# Altium integrated library Diodes - TVS.IntLib: 5379 symbols (part 46 of 122)
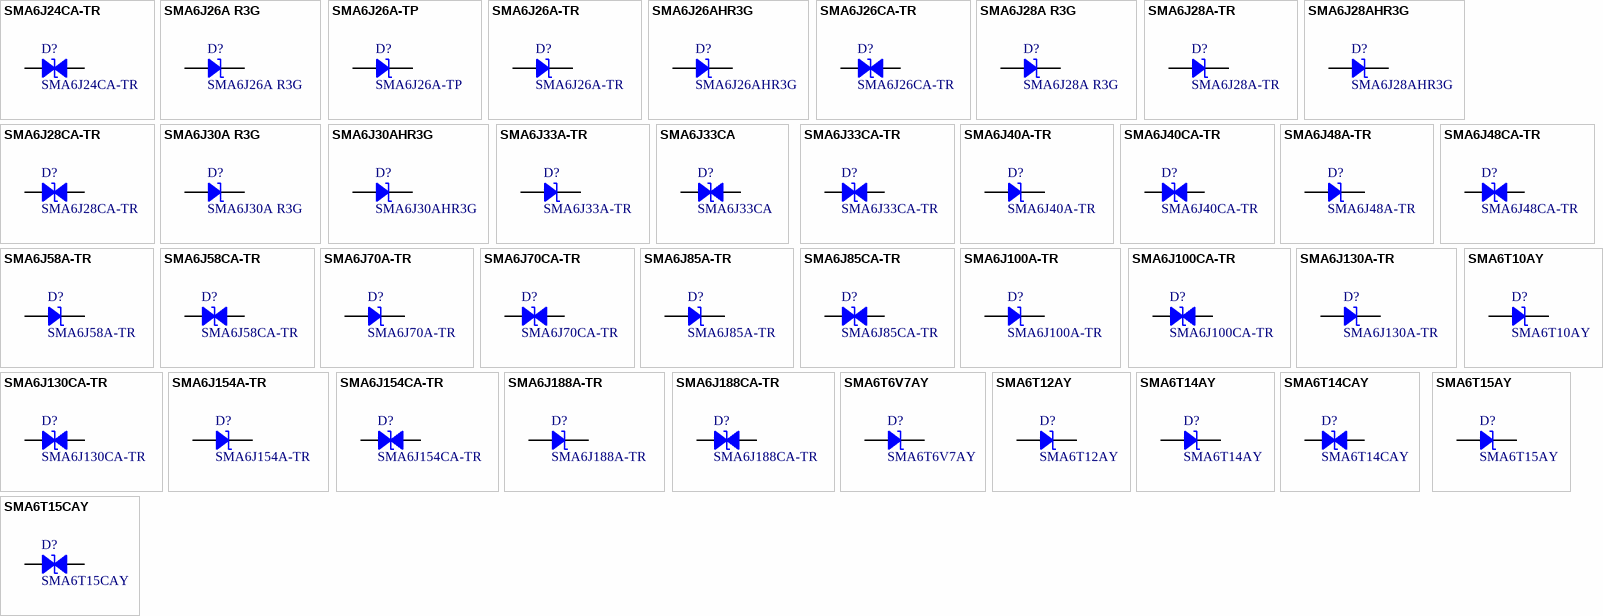
[diagram p179: symbols SMA6J24CA-TR to SMA6T15CAY]

## SMA6J58A-TR
designator D?
TVS DIODE 58V 100V SMA; Manufacturer: STMicroelectronics; Current - Peak Pulse (10/1000µs): 33A (8/20µs); Power Line Protection: No; Power - Peak Pulse: 600W; Type: Zener; Unidirectional Channels: 1; Voltage - Breakdown (Min): 64.4V; Part Number: SMA6J58A-TR; Applications: General Purpose; ComponentLink1Description: Datasheet; ComponentLink1URL: http://www.st.com/content/ccc/resource/technical/document/datasheet/56/26/d7/6f/22/8c/4e/b3/CD00152688.pdf/files/CD00152688.pdf/_jcr_content/translations/en.CD00152688.pdf; ComponentLink2Description: DigiKey Link; ComponentLink2URL: http://digikey.com/product-detail/en/stmicroelectronics/SMA6J58A-TR/497-5940-1-ND/1578446; LastUpdated: 9/2/2020 1:20:14 AM; Lifecycle Status: Active; Minimum Order: 1; Mounting Type: Surface Mount; Operating Temperature: -55°C ~ 175°C (TJ); Package / Case: DO-214AC, SMA; Packaging: TapeAndReel; PartId: 5688; Part Status: Active; Price: 0.16; Series: SMA6J, TRANSIL™; Supplier 1: DigiKey; Supplier Part Number 1: 497-5940-1-ND; Supplier Device Package: SMA (DO-214AC); Voltage - Clamping (Max) @ Ipp: 100V; Voltage - Reverse Standoff (Typ): 58V
footprint DO214AC SMA
pins: 1, 2

## SMA6J58CA-TR
designator D?
TVS DIODE 58V 100V SMA; Manufacturer: STMicroelectronics; Bidirectional Channels: 1; Current - Peak Pulse (10/1000µs): 33A (8/20µs); Power Line Protection: No; Power - Peak Pulse: 600W; Type: Zener; Voltage - Breakdown (Min): 64.4V; Part Number: SMA6J58CA-TR; Applications: General Purpose; ComponentLink1Description: Datasheet; ComponentLink1URL: http://www.st.com/content/ccc/resource/technical/document/datasheet/56/26/d7/6f/22/8c/4e/b3/CD00152688.pdf/files/CD00152688.pdf/_jcr_content/translations/en.CD00152688.pdf; ComponentLink2Description: DigiKey Link; ComponentLink2URL: http://digikey.com/product-detail/en/stmicroelectronics/SMA6J58CA-TR/497-5941-1-ND/1578447; LastUpdated: 9/2/2020 1:27:51 AM; Lifecycle Status: Active; Minimum Order: 1; Mounting Type: Surface Mount; Operating Temperature: -55°C ~ 175°C (TJ); Package / Case: DO-214AC, SMA; Packaging: TapeAndReel; PartId: 7383; Part Status: Active; Price: 0.17; Series: SMA6J, TRANSIL™; Supplier 1: DigiKey; Supplier Part Number 1: 497-5941-1-ND; Supplier Device Package: SMA (DO-214AC); Voltage - Clamping (Max) @ Ipp: 100V; Voltage - Reverse Standoff (Typ): 58V
footprint DO214AC SMA
pins: 1, 2

## SMA6J70A-TR
designator D?
TVS DIODE 70V 120V SMA; Manufacturer: STMicroelectronics; Current - Peak Pulse (10/1000µs): 27A (8/20µs); Power Line Protection: No; Power - Peak Pulse: 600W; Type: Zener; Unidirectional Channels: 1; Voltage - Breakdown (Min): 77.8V; Part Number: SMA6J70A-TR; Applications: General Purpose; ComponentLink1Description: Datasheet; ComponentLink1URL: http://www.st.com/content/ccc/resource/technical/document/datasheet/56/26/d7/6f/22/8c/4e/b3/CD00152688.pdf/files/CD00152688.pdf/_jcr_content/translations/en.CD00152688.pdf; ComponentLink2Description: DigiKey Link; ComponentLink2URL: http://digikey.com/product-detail/en/stmicroelectronics/SMA6J70A-TR/497-5946-1-ND/1578452; LastUpdated: 9/2/2020 1:20:14 AM; Lifecycle Status: Active; Minimum Order: 1; Mounting Type: Surface Mount; Operating Temperature: -55°C ~ 175°C (TJ); Package / Case: DO-214AC, SMA; Packaging: TapeAndReel; PartId: 5732; Part Status: Active; Price: 0.16; Series: SMA6J, TRANSIL™; Supplier 1: DigiKey; Supplier Part Number 1: 497-5946-1-ND; Supplier Device Package: SMA (DO-214AC); Voltage - Clamping (Max) @ Ipp: 120V; Voltage - Reverse Standoff (Typ): 70V
footprint DO214AC SMA
pins: 1, 2

## SMA6J70CA-TR
designator D?
TVS DIODE 70V 120V SMA; Manufacturer: STMicroelectronics; Bidirectional Channels: 1; Current - Peak Pulse (10/1000µs): 27A (8/20µs); Power Line Protection: No; Power - Peak Pulse: 600W; Type: Zener; Voltage - Breakdown (Min): 77.8V; Part Number: SMA6J70CA-TR; Applications: General Purpose; ComponentLink1Description: Datasheet; ComponentLink1URL: http://www.st.com/content/ccc/resource/technical/document/datasheet/56/26/d7/6f/22/8c/4e/b3/CD00152688.pdf/files/CD00152688.pdf/_jcr_content/translations/en.CD00152688.pdf; ComponentLink2Description: DigiKey Link; ComponentLink2URL: http://digikey.com/product-detail/en/stmicroelectronics/SMA6J70CA-TR/497-5947-1-ND/1578453; LastUpdated: 9/2/2020 1:27:51 AM; Lifecycle Status: Active; Minimum Order: 1; Mounting Type: Surface Mount; Operating Temperature: -55°C ~ 175°C (TJ); Package / Case: DO-214AC, SMA; Packaging: TapeAndReel; PartId: 7330; Part Status: Active; Price: 0.17; Series: SMA6J, TRANSIL™; Supplier 1: DigiKey; Supplier Part Number 1: 497-5947-1-ND; Supplier Device Package: SMA (DO-214AC); Voltage - Clamping (Max) @ Ipp: 120V; Voltage - Reverse Standoff (Typ): 70V
footprint DO214AC SMA
pins: 1, 2

## SMA6J85A-TR
designator D?
TVS DIODE 85V 146V SMA; Manufacturer: STMicroelectronics; Current - Peak Pulse (10/1000µs): 22.5A (8/20µs); Power Line Protection: No; Power - Peak Pulse: 600W; Type: Zener; Unidirectional Channels: 1; Voltage - Breakdown (Min): 94V; Part Number: SMA6J85A-TR; Applications: General Purpose; ComponentLink1Description: Datasheet; ComponentLink1URL: http://www.st.com/content/ccc/resource/technical/document/datasheet/56/26/d7/6f/22/8c/4e/b3/CD00152688.pdf/files/CD00152688.pdf/_jcr_content/translations/en.CD00152688.pdf; ComponentLink2Description: DigiKey Link; ComponentLink2URL: http://digikey.com/product-detail/en/stmicroelectronics/SMA6J85A-TR/497-7445-1-ND/1883980; LastUpdated: 9/2/2020 1:20:13 AM; Lifecycle Status: Active; Minimum Order: 1; Mounting Type: Surface Mount; Operating Temperature: -55°C ~ 175°C (TJ); Package / Case: DO-214AC, SMA; Packaging: TapeAndReel; PartId: 5616; Part Status: Active; Price: 0.16; Series: SMA6J, TRANSIL™; Supplier 1: DigiKey; Supplier Part Number 1: 497-7445-1-ND; Supplier Device Package: SMA (DO-214AC); Voltage - Clamping (Max) @ Ipp: 146V; Voltage - Reverse Standoff (Typ): 85V
footprint DO214AC SMA
pins: 1, 2

## SMA6J85CA-TR
designator D?
TVS DIODE 85V 146V SMA; Manufacturer: STMicroelectronics; Bidirectional Channels: 1; Current - Peak Pulse (10/1000µs): 22.5A (8/20µs); Power Line Protection: No; Power - Peak Pulse: 600W; Type: Zener; Voltage - Breakdown (Min): 94V; Part Number: SMA6J85CA-TR; Applications: General Purpose; ComponentLink1Description: Datasheet; ComponentLink1URL: http://www.st.com/content/ccc/resource/technical/document/datasheet/56/26/d7/6f/22/8c/4e/b3/CD00152688.pdf/files/CD00152688.pdf/_jcr_content/translations/en.CD00152688.pdf; ComponentLink2Description: DigiKey Link; ComponentLink2URL: http://digikey.com/product-detail/en/stmicroelectronics/SMA6J85CA-TR/497-7889-1-ND/1883966; LastUpdated: 9/2/2020 1:27:50 AM; Lifecycle Status: Active; Minimum Order: 1; Mounting Type: Surface Mount; Operating Temperature: -55°C ~ 175°C (TJ); Package / Case: DO-214AC, SMA; Packaging: TapeAndReel; PartId: 7273; Part Status: Active; Price: 0.18; Series: SMA6J, TRANSIL™; Supplier 1: DigiKey; Supplier Part Number 1: 497-7889-1-ND; Supplier Device Package: SMA (DO-214AC); Voltage - Clamping (Max) @ Ipp: 146V; Voltage - Reverse Standoff (Typ): 85V
footprint DO214AC SMA
pins: 1, 2

## SMA6J100A-TR
designator D?
TVS DIODE 100V 172V SMA; Manufacturer: STMicroelectronics; Current - Peak Pulse (10/1000µs): 19A (8/20µs); Power Line Protection: No; Power - Peak Pulse: 600W; Type: Zener; Unidirectional Channels: 1; Voltage - Breakdown (Min): 111V; Part Number: SMA6J100A-TR; Applications: General Purpose; ComponentLink1Description: Datasheet; ComponentLink1URL: http://www.st.com/content/ccc/resource/technical/document/datasheet/56/26/d7/6f/22/8c/4e/b3/CD00152688.pdf/files/CD00152688.pdf/_jcr_content/translations/en.CD00152688.pdf; ComponentLink2Description: DigiKey Link; ComponentLink2URL: http://digikey.com/product-detail/en/stmicroelectronics/SMA6J100A-TR/497-7440-1-ND/1883978; LastUpdated: 9/2/2020 1:20:13 AM; Lifecycle Status: Active; Minimum Order: 1; Mounting Type: Surface Mount; Operating Temperature: -55°C ~ 175°C (TJ); Package / Case: DO-214AC, SMA; Packaging: TapeAndReel; PartId: 5617; Part Status: Active; Price: 0.16; Series: SMA6J, TRANSIL™; Supplier 1: DigiKey; Supplier Part Number 1: 497-7440-1-ND; Supplier Device Package: SMA (DO-214AC); Voltage - Clamping (Max) @ Ipp: 172V; Voltage - Reverse Standoff (Typ): 100V
footprint DO214AC SMA
pins: 1, 2

## SMA6J100CA-TR
designator D?
TVS DIODE 100V 172V SMA; Manufacturer: STMicroelectronics; Bidirectional Channels: 1; Current - Peak Pulse (10/1000µs): 19A (8/20µs); Power Line Protection: No; Power - Peak Pulse: 600W; Type: Zener; Voltage - Breakdown (Min): 111V; Part Number: SMA6J100CA-TR; Applications: General Purpose; ComponentLink1Description: Datasheet; ComponentLink1URL: http://www.st.com/content/ccc/resource/technical/document/datasheet/56/26/d7/6f/22/8c/4e/b3/CD00152688.pdf/files/CD00152688.pdf/_jcr_content/translations/en.CD00152688.pdf; ComponentLink2Description: DigiKey Link; ComponentLink2URL: http://digikey.com/product-detail/en/stmicroelectronics/SMA6J100CA-TR/497-7883-1-ND/1883953; LastUpdated: 9/2/2020 1:27:51 AM; Lifecycle Status: Active; Minimum Order: 1; Mounting Type: Surface Mount; Operating Temperature: -55°C ~ 175°C (TJ); Package / Case: DO-214AC, SMA; Packaging: TapeAndReel; PartId: 7382; Part Status: Active; Price: 0.18; Series: SMA6J, TRANSIL™; Supplier 1: DigiKey; Supplier Part Number 1: 497-7883-1-ND; Supplier Device Package: SMA (DO-214AC); Voltage - Clamping (Max) @ Ipp: 172V; Voltage - Reverse Standoff (Typ): 100V
footprint DO214AC SMA
pins: 1, 2

## SMA6J130A-TR
designator D?
TVS DIODE 130V 223V SMA; Manufacturer: STMicroelectronics; Current - Peak Pulse (10/1000µs): 15A (8/20µs); Power Line Protection: No; Power - Peak Pulse: 600W; Type: Zener; Unidirectional Channels: 1; Voltage - Breakdown (Min): 144V; Part Number: SMA6J130A-TR; Applications: General Purpose; ComponentLink1Description: Datasheet; ComponentLink1URL: http://www.st.com/content/ccc/resource/technical/document/datasheet/56/26/d7/6f/22/8c/4e/b3/CD00152688.pdf/files/CD00152688.pdf/_jcr_content/translations/en.CD00152688.pdf; ComponentLink2Description: DigiKey Link; ComponentLink2URL: http://digikey.com/product-detail/en/stmicroelectronics/SMA6J130A-TR/497-SMA6J130A-CT-ND/1883971; LastUpdated: 9/2/2020 1:20:12 AM; Lifecycle Status: Active; Minimum Order: 1; Mounting Type: Surface Mount; Operating Temperature: -55°C ~ 175°C (TJ); Package / Case: DO-214AC, SMA; Packaging: TapeAndReel; PartId: 5550; Part Status: Active; Price: 0.16; Series: SMA6J, TRANSIL™; Supplier 1: DigiKey; Supplier Part Number 1: 497-SMA6J130A-CT-ND; Supplier Device Package: SMA (DO-214AC); Voltage - Clamping (Max) @ Ipp: 223V; Voltage - Reverse Standoff (Typ): 130V
footprint DO214AC SMA
pins: 1, 2

## SMA6J130CA-TR
designator D?
TVS DIODE 130V 223V SMA; Manufacturer: STMicroelectronics; Bidirectional Channels: 1; Current - Peak Pulse (10/1000µs): 15A (8/20µs); Power Line Protection: No; Power - Peak Pulse: 600W; Type: Zener; Voltage - Breakdown (Min): 144V; Part Number: SMA6J130CA-TR; Applications: General Purpose; ComponentLink1Description: Datasheet; ComponentLink1URL: http://www.st.com/content/ccc/resource/technical/document/datasheet/56/26/d7/6f/22/8c/4e/b3/CD00152688.pdf/files/CD00152688.pdf/_jcr_content/translations/en.CD00152688.pdf; ComponentLink2Description: DigiKey Link; ComponentLink2URL: http://digikey.com/product-detail/en/stmicroelectronics/SMA6J130CA-TR/497-7884-1-ND/1883956; LastUpdated: 9/2/2020 1:27:50 AM; Lifecycle Status: Active; Minimum Order: 1; Mounting Type: Surface Mount; Operating Temperature: -55°C ~ 175°C (TJ); Package / Case: DO-214AC, SMA; Packaging: TapeAndReel; PartId: 7274; Part Status: Active; Price: 0.18; Series: SMA6J, TRANSIL™; Supplier 1: DigiKey; Supplier Part Number 1: 497-7884-1-ND; Supplier Device Package: SMA (DO-214AC); Voltage - Clamping (Max) @ Ipp: 223V; Voltage - Reverse Standoff (Typ): 130V
footprint DO214AC SMA
pins: 1, 2

## SMA6J154A-TR
designator D?
TVS DIODE 154V 265V SMA; Manufacturer: STMicroelectronics; Current - Peak Pulse (10/1000µs): 12.6A (8/20µs); Power Line Protection: No; Power - Peak Pulse: 600W; Type: Zener; Unidirectional Channels: 1; Voltage - Breakdown (Min): 171V; Part Number: SMA6J154A-TR; Applications: General Purpose; ComponentLink1Description: Datasheet; ComponentLink1URL: http://www.st.com/content/ccc/resource/technical/document/datasheet/56/26/d7/6f/22/8c/4e/b3/CD00152688.pdf/files/CD00152688.pdf/jcr:content/translations/en.CD00152688.pdf; ComponentLink2Description: DigiKey Link; ComponentLink2URL: http://digikey.com/product-detail/en/stmicroelectronics/SMA6J154A-TR/497-7442-1-ND/1883988; LastUpdated: 9/2/2020 1:20:14 AM; Lifecycle Status: Active; Minimum Order: 1; Mounting Type: Surface Mount; Operating Temperature: -55°C ~ 175°C (TJ); Package / Case: DO-214AC, SMA; Packaging: TapeAndReel; PartId: 5689; Part Status: Active; Price: 0.16; Series: SMA6J, TRANSIL™; Supplier 1: DigiKey; Supplier Part Number 1: 497-7442-1-ND; Supplier Device Package: SMA (DO-214AC); Voltage - Clamping (Max) @ Ipp: 265V; Voltage - Reverse Standoff (Typ): 154V
footprint DO214AC SMA
pins: 1, 2

## SMA6J154CA-TR
designator D?
TVS DIODE 154V 265V SMA; Manufacturer: STMicroelectronics; Bidirectional Channels: 1; Current - Peak Pulse (10/1000µs): 12.6A (8/20µs); Power Line Protection: No; Power - Peak Pulse: 600W; Type: Zener; Voltage - Breakdown (Min): 171V; Part Number: SMA6J154CA-TR; Applications: General Purpose; ComponentLink1Description: Datasheet; ComponentLink1URL: http://www.st.com/content/ccc/resource/technical/document/datasheet/56/26/d7/6f/22/8c/4e/b3/CD00152688.pdf/files/CD00152688.pdf/_jcr_content/translations/en.CD00152688.pdf; ComponentLink2Description: DigiKey Link; ComponentLink2URL: http://digikey.com/product-detail/en/stmicroelectronics/SMA6J154CA-TR/497-7885-1-ND/1883957; LastUpdated: 9/2/2020 1:27:50 AM; Lifecycle Status: Active; Minimum Order: 1; Mounting Type: Surface Mount; Operating Temperature: -55°C ~ 175°C (TJ); Package / Case: DO-214AC, SMA; Packaging: TapeAndReel; PartId: 7272; Part Status: Active; Price: 0.18; Series: SMA6J, TRANSIL™; Supplier 1: DigiKey; Supplier Part Number 1: 497-7885-1-ND; Supplier Device Package: SMA (DO-214AC); Voltage - Clamping (Max) @ Ipp: 265V; Voltage - Reverse Standoff (Typ): 154V
footprint DO214AC SMA
pins: 1, 2

## SMA6J188A-TR
designator D?
TVS DIODE 188V 323V SMA; Manufacturer: STMicroelectronics; Current - Peak Pulse (10/1000µs): 10.3A (8/20µs); Power Line Protection: No; Power - Peak Pulse: 600W; Type: Zener; Unidirectional Channels: 1; Voltage - Breakdown (Min): 209V; Part Number: SMA6J188A-TR; Applications: General Purpose; ComponentLink1Description: Datasheet; ComponentLink1URL: http://www.st.com/content/ccc/resource/technical/document/datasheet/56/26/d7/6f/22/8c/4e/b3/CD00152688.pdf/files/CD00152688.pdf/_jcr_content/translations/en.CD00152688.pdf; ComponentLink2Description: DigiKey Link; ComponentLink2URL: http://digikey.com/product-detail/en/stmicroelectronics/SMA6J188A-TR/497-SMA6J188A-CT-ND/1883987; LastUpdated: 9/2/2020 1:20:12 AM; Lifecycle Status: Active; Minimum Order: 1; Mounting Type: Surface Mount; Operating Temperature: -55°C ~ 175°C (TJ); Package / Case: DO-214AC, SMA; Packaging: TapeAndReel; PartId: 5549; Part Status: Active; Price: 0.16; Series: SMA6J, TRANSIL™; Supplier 1: DigiKey; Supplier Part Number 1: 497-SMA6J188A-CT-ND; Supplier Device Package: SMA (DO-214AC); Voltage - Clamping (Max) @ Ipp: 323V; Voltage - Reverse Standoff (Typ): 188V
footprint DO214AC SMA
pins: 1, 2

## SMA6J188CA-TR
designator D?
TVS DIODE 188V 323V SMA; Manufacturer: STMicroelectronics; Bidirectional Channels: 1; Current - Peak Pulse (10/1000µs): 10.3A (8/20µs); Power Line Protection: No; Power - Peak Pulse: 600W; Type: Zener; Voltage - Breakdown (Min): 209V; Part Number: SMA6J188CA-TR; Applications: General Purpose; ComponentLink1Description: Datasheet; ComponentLink1URL: http://www.st.com/content/ccc/resource/technical/document/datasheet/56/26/d7/6f/22/8c/4e/b3/CD00152688.pdf/files/CD00152688.pdf/_jcr_content/translations/en.CD00152688.pdf; ComponentLink2Description: DigiKey Link; ComponentLink2URL: http://digikey.com/product-detail/en/stmicroelectronics/SMA6J188CA-TR/497-7887-1-ND/1883958; LastUpdated: 9/2/2020 1:27:50 AM; Lifecycle Status: Active; Minimum Order: 1; Mounting Type: Surface Mount; Operating Temperature: -55°C ~ 175°C (TJ); Package / Case: DO-214AC, SMA; Packaging: TapeAndReel; PartId: 7278; Part Status: Active; Price: 0.18; Series: SMA6J, TRANSIL™; Supplier 1: DigiKey; Supplier Part Number 1: 497-7887-1-ND; Supplier Device Package: SMA (DO-214AC); Voltage - Clamping (Max) @ Ipp: 323V; Voltage - Reverse Standoff (Typ): 188V
footprint DO214AC SMA
pins: 1, 2

## SMA6T6V7AY
designator D?
TVS DIODE 5V 13.4V SMA; Manufacturer: STMicroelectronics; Current - Peak Pulse (10/1000µs): 298A (8/20µs); Power Line Protection: No; Power - Peak Pulse: 600W; Type: Zener; Unidirectional Channels: 1; Voltage - Breakdown (Min): 6.4V; Part Number: SMA6T6V7AY; Applications: Automotive; ComponentLink1Description: Datasheet; ComponentLink1URL: http://www.st.com/content/ccc/resource/technical/document/datasheet/93/f7/c5/38/17/3c/42/37/CD00283518.pdf/files/CD00283518.pdf/_jcr_content/translations/en.CD00283518.pdf; ComponentLink2Description: DigiKey Link; ComponentLink2URL: http://digikey.com/product-detail/en/stmicroelectronics/SMA6T6V7AY/497-11833-1-ND/2756598; LastUpdated: 9/2/2020 1:20:12 AM; Lifecycle Status: Active; Minimum Order: 1; Mounting Type: Surface Mount; Operating Temperature: -40°C ~ 150°C (TJ); Package / Case: DO-214AC, SMA; Packaging: TapeAndReel; PartId: 5553; Part Status: Active; Price: 0.21; Series: Automotive, AEC-Q101, SMA6TY, TRANSIL™; Supplier 1: DigiKey; Supplier Part Number 1: 497-11833-1-ND; Supplier Device Package: SMA (DO-214AC); Voltage - Clamping (Max) @ Ipp: 13.4V; Voltage - Reverse Standoff (Typ): 5V
footprint DO214AC SMA
pins: 1, 2

## SMA6T10AY
designator D?
TVS DIODE 8.6V 18.6V SMA; Manufacturer: STMicroelectronics; Current - Peak Pulse (10/1000µs): 215A (8/20µs); Power Line Protection: No; Power - Peak Pulse: 600W; Type: Zener; Unidirectional Channels: 1; Voltage - Breakdown (Min): 9.5V; Part Number: SMA6T10AY; Applications: Automotive; ComponentLink1Description: Datasheet; ComponentLink1URL: http://www.st.com/content/ccc/resource/technical/document/datasheet/93/f7/c5/38/17/3c/42/37/CD00283518.pdf/files/CD00283518.pdf/_jcr_content/translations/en.CD00283518.pdf; ComponentLink2Description: DigiKey Link; ComponentLink2URL: http://digikey.com/product-detail/en/stmicroelectronics/SMA6T10AY/497-11819-1-ND/2756630; LastUpdated: 9/2/2020 1:20:13 AM; Lifecycle Status: Active; Minimum Order: 1; Mounting Type: Surface Mount; Operating Temperature: -40°C ~ 150°C (TJ); Package / Case: DO-214AC, SMA; Packaging: TapeAndReel; PartId: 5565; Part Status: Active; Price: 0.21; Series: Automotive, AEC-Q101, SMA6TY, TRANSIL™; Supplier 1: DigiKey; Supplier Part Number 1: 497-11819-1-ND; Supplier Device Package: SMA (DO-214AC); Voltage - Clamping (Max) @ Ipp: 18.6V; Voltage - Reverse Standoff (Typ): 8.6V
footprint DO214AC SMA
pins: 1, 2

## SMA6T12AY
designator D?
TVS DIODE 10.2V 21.7V SMA; Manufacturer: STMicroelectronics; Current - Peak Pulse (10/1000µs): 184A (8/20µs); Power Line Protection: No; Power - Peak Pulse: 600W; Type: Zener; Unidirectional Channels: 1; Voltage - Breakdown (Min): 11.4V; Part Number: SMA6T12AY; Applications: Automotive; ComponentLink1Description: Datasheet; ComponentLink1URL: http://www.st.com/content/ccc/resource/technical/document/datasheet/93/f7/c5/38/17/3c/42/37/CD00283518.pdf/files/CD00283518.pdf/_jcr_content/translations/en.CD00283518.pdf; ComponentLink2Description: DigiKey Link; ComponentLink2URL: http://digikey.com/product-detail/en/stmicroelectronics/SMA6T12AY/497-11821-1-ND/2756633; LastUpdated: 9/2/2020 1:20:12 AM; Lifecycle Status: Active; Minimum Order: 1; Mounting Type: Surface Mount; Operating Temperature: -40°C ~ 150°C (TJ); Package / Case: DO-214AC, SMA; Packaging: TapeAndReel; PartId: 5554; Part Status: Active; Price: 0.21; Series: Automotive, AEC-Q101, SMA6TY, TRANSIL™; Supplier 1: DigiKey; Supplier Part Number 1: 497-11821-1-ND; Supplier Device Package: SMA (DO-214AC); Voltage - Clamping (Max) @ Ipp: 21.7V; Voltage - Reverse Standoff (Typ): 10.2V
footprint DO214AC SMA
pins: 1, 2

## SMA6T14AY
designator D?
TVS DIODE 12V 23.5V SMA; Manufacturer: STMicroelectronics; Current - Peak Pulse (10/1000µs): 157A (8/20µs); Power Line Protection: No; Power - Peak Pulse: 600W; Type: Zener; Unidirectional Channels: 1; Voltage - Breakdown (Min): 13.3V; Part Number: SMA6T14AY; Applications: Automotive; ComponentLink1Description: Datasheet; ComponentLink1URL: http://www.st.com/content/ccc/resource/technical/document/datasheet/93/f7/c5/38/17/3c/42/37/CD00283518.pdf/files/CD00283518.pdf/_jcr_content/translations/en.CD00283518.pdf; ComponentLink2Description: DigiKey Link; ComponentLink2URL: http://digikey.com/product-detail/en/stmicroelectronics/SMA6T14AY/497-11823-1-ND/2756631; LastUpdated: 9/2/2020 1:20:14 AM; Lifecycle Status: Active; Minimum Order: 1; Mounting Type: Surface Mount; Operating Temperature: -40°C ~ 150°C (TJ); Package / Case: DO-214AC, SMA; Packaging: TapeAndReel; PartId: 5721; Part Status: Active; Price: 0.21; Series: Automotive, AEC-Q101, SMA6TY, TRANSIL™; Supplier 1: DigiKey; Supplier Part Number 1: 497-11823-1-ND; Supplier Device Package: SMA (DO-214AC); Voltage - Clamping (Max) @ Ipp: 23.5V; Voltage - Reverse Standoff (Typ): 12V
footprint DO214AC SMA
pins: 1, 2

## SMA6T14CAY
designator D?
TVS DIODE 12V 23.5V SMA; Manufacturer: STMicroelectronics; Bidirectional Channels: 1; Current - Peak Pulse (10/1000µs): 157A (8/20µs); Power Line Protection: No; Power - Peak Pulse: 600W; Type: Zener; Voltage - Breakdown (Min): 13.3V; Part Number: SMA6T14CAY; Applications: Automotive; ComponentLink1Description: Datasheet; ComponentLink1URL: http://www.st.com/content/ccc/resource/technical/document/datasheet/93/f7/c5/38/17/3c/42/37/CD00283518.pdf/files/CD00283518.pdf/_jcr_content/translations/en.CD00283518.pdf; ComponentLink2Description: DigiKey Link; ComponentLink2URL: http://digikey.com/product-detail/en/stmicroelectronics/SMA6T14CAY/497-11824-1-ND/2756606; LastUpdated: 9/2/2020 1:27:55 AM; Lifecycle Status: Active; Minimum Order: 1; Mounting Type: Surface Mount; Operating Temperature: -40°C ~ 150°C (TJ); Package / Case: DO-214AC, SMA; Packaging: TapeAndReel; PartId: 7815; Part Status: Active; Price: 0.23; Series: Automotive, AEC-Q101, SMA6TY, TRANSIL™; Supplier 1: DigiKey; Supplier Part Number 1: 497-11824-1-ND; Supplier Device Package: SMA (DO-214AC); Voltage - Clamping (Max) @ Ipp: 23.5V; Voltage - Reverse Standoff (Typ): 12V
footprint DO214AC SMA
pins: 1, 2

## SMA6T15AY
designator D?
TVS DIODE 12.8V 27.2V SMA; Manufacturer: STMicroelectronics; Current - Peak Pulse (10/1000µs): 147A (8/20µs); Power Line Protection: No; Power - Peak Pulse: 600W; Type: Zener; Unidirectional Channels: 1; Voltage - Breakdown (Min): 14.3V; Part Number: SMA6T15AY; Applications: Automotive; ComponentLink1Description: Datasheet; ComponentLink1URL: http://www.st.com/content/ccc/resource/technical/document/datasheet/93/f7/c5/38/17/3c/42/37/CD00283518.pdf/files/CD00283518.pdf/_jcr_content/translations/en.CD00283518.pdf; ComponentLink2Description: DigiKey Link; ComponentLink2URL: http://digikey.com/product-detail/en/stmicroelectronics/SMA6T15AY/497-11825-1-ND/2756623; LastUpdated: 9/2/2020 1:20:12 AM; Lifecycle Status: Active; Minimum Order: 1; Mounting Type: Surface Mount; Operating Temperature: -40°C ~ 150°C (TJ); Package / Case: DO-214AC, SMA; Packaging: TapeAndReel; PartId: 5556; Part Status: Active; Price: 0.21; Series: Automotive, AEC-Q101, SMA6TY, TRANSIL™; Supplier 1: DigiKey; Supplier Part Number 1: 497-11825-1-ND; Supplier Device Package: SMA (DO-214AC); Voltage - Clamping (Max) @ Ipp: 27.2V; Voltage - Reverse Standoff (Typ): 12.8V
footprint DO214AC SMA
pins: 1, 2

## SMA6T15CAY
designator D?
TVS DIODE 12.8V 27.2V SMA; Manufacturer: STMicroelectronics; Bidirectional Channels: 1; Current - Peak Pulse (10/1000µs): 147A (8/20µs); Power Line Protection: No; Power - Peak Pulse: 600W; Type: Zener; Voltage - Breakdown (Min): 14.3V; Part Number: SMA6T15CAY; Applications: Automotive; ComponentLink1Description: Datasheet; ComponentLink1URL: http://www.st.com/content/ccc/resource/technical/document/datasheet/93/f7/c5/38/17/3c/42/37/CD00283518.pdf/files/CD00283518.pdf/_jcr_content/translations/en.CD00283518.pdf; ComponentLink2Description: DigiKey Link; ComponentLink2URL: http://digikey.com/product-detail/en/stmicroelectronics/SMA6T15CAY/497-11826-1-ND/2756628; LastUpdated: 9/2/2020 1:27:55 AM; Lifecycle Status: Active; Minimum Order: 1; Mounting Type: Surface Mount; Operating Temperature: -40°C ~ 150°C (TJ); Package / Case: DO-214AC, SMA; Packaging: TapeAndReel; PartId: 7797; Part Status: Active; Price: 0.23; Series: Automotive, AEC-Q101, SMA6TY, TRANSIL™; Supplier 1: DigiKey; Supplier Part Number 1: 497-11826-1-ND; Supplier Device Package: SMA (DO-214AC); Voltage - Clamping (Max) @ Ipp: 27.2V; Voltage - Reverse Standoff (Typ): 12.8V
footprint DO214AC SMA
pins: 1, 2

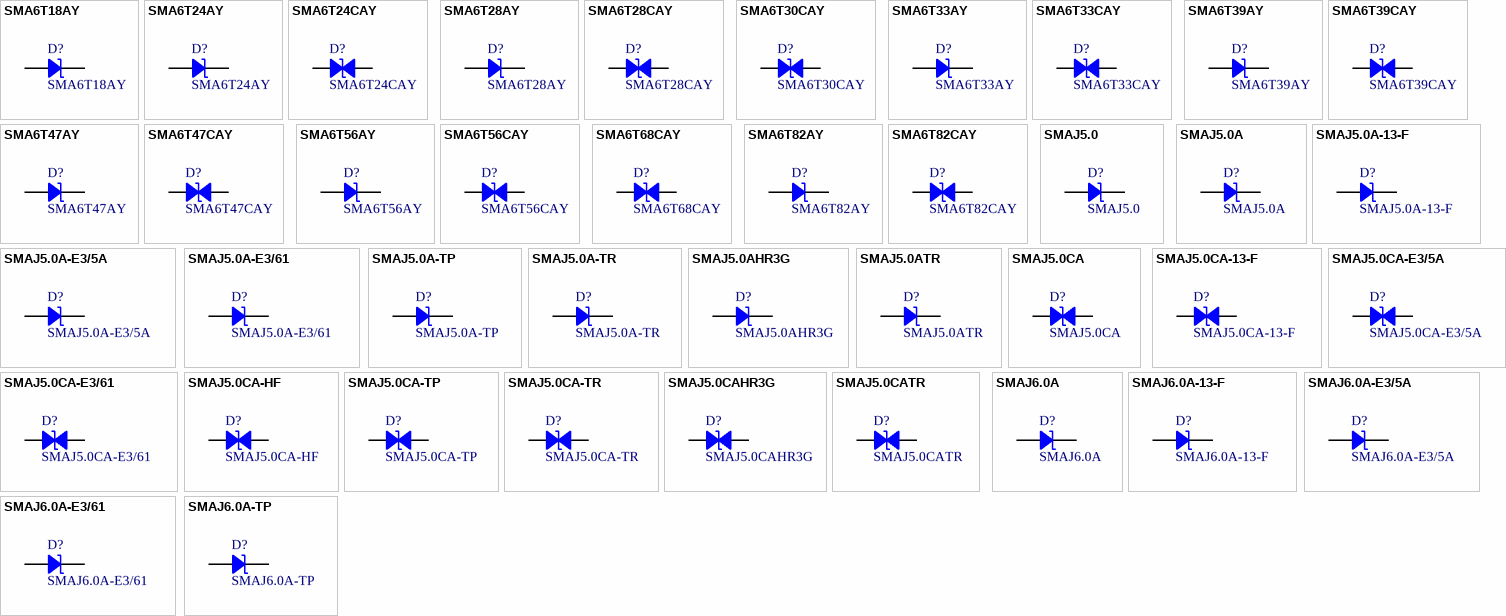
[diagram p50: symbols SMA6T18AY to SMAJ6.0A-TP]

## SMA6T18AY
designator D?
TVS DIODE 15.3V 32.3V SMA; Manufacturer: STMicroelectronics; Current - Peak Pulse (10/1000µs): 123A (8/20µs); Power Line Protection: No; Power - Peak Pulse: 600W; Type: Zener; Unidirectional Channels: 1; Voltage - Breakdown (Min): 17.1V; Part Number: SMA6T18AY; Applications: Automotive; ComponentLink1Description: Datasheet; ComponentLink1URL: http://www.st.com/content/ccc/resource/technical/document/datasheet/93/f7/c5/38/17/3c/42/37/CD00283518.pdf/files/CD00283518.pdf/_jcr_content/translations/en.CD00283518.pdf; ComponentLink2Description: DigiKey Link; ComponentLink2URL: http://digikey.com/product-detail/en/stmicroelectronics/SMA6T18AY/497-11827-1-ND/2756627; LastUpdated: 9/2/2020 1:20:12 AM; Lifecycle Status: Active; Minimum Order: 1; Mounting Type: Surface Mount; Operating Temperature: -40°C ~ 150°C (TJ); Package / Case: DO-214AC, SMA; Packaging: TapeAndReel; PartId: 5562; Part Status: Active; Price: 0.21; Series: Automotive, AEC-Q101, SMA6TY, TRANSIL™; Supplier 1: DigiKey; Supplier Part Number 1: 497-11827-1-ND; Supplier Device Package: SMA (DO-214AC); Voltage - Clamping (Max) @ Ipp: 32.3V; Voltage - Reverse Standoff (Typ): 15.3V
footprint DO214AC SMA
pins: 1, 2

## SMA6T24AY
designator D?
TVS DIODE 20.5V 42.8V SMA; Manufacturer: STMicroelectronics; Current - Peak Pulse (10/1000µs): 93A (8/20µs); Power Line Protection: No; Power - Peak Pulse: 600W; Type: Zener; Unidirectional Channels: 1; Voltage - Breakdown (Min): 22.8V; Part Number: SMA6T24AY; Applications: Automotive; ComponentLink1Description: Datasheet; ComponentLink1URL: http://www.st.com/content/ccc/resource/technical/document/datasheet/93/f7/c5/38/17/3c/42/37/CD00283518.pdf/files/CD00283518.pdf/_jcr_content/translations/en.CD00283518.pdf; ComponentLink2Description: DigiKey Link; ComponentLink2URL: http://digikey.com/product-detail/en/stmicroelectronics/SMA6T24AY/497-10941-1-ND/2522564; LastUpdated: 9/2/2020 1:20:14 AM; Lifecycle Status: Active; Minimum Order: 1; Mounting Type: Surface Mount; Operating Temperature: -40°C ~ 150°C (TJ); Package / Case: DO-214AC, SMA; Packaging: TapeAndReel; PartId: 5734; Part Status: Active; Price: 0.35; Series: Automotive, AEC-Q101, SMA6TY, TRANSIL™; Supplier 1: DigiKey; Supplier Part Number 1: 497-10941-1-ND; Supplier Device Package: SMA (DO-214AC); Voltage - Clamping (Max) @ Ipp: 42.8V; Voltage - Reverse Standoff (Typ): 20.5V
footprint DO214AC SMA
pins: 1, 2

## SMA6T24CAY
designator D?
TVS DIODE 20.5V 42.8V SMA; Manufacturer: STMicroelectronics; Bidirectional Channels: 1; Current - Peak Pulse (10/1000µs): 93A (8/20µs); Power Line Protection: No; Power - Peak Pulse: 600W; Type: Zener; Voltage - Breakdown (Min): 22.8V; Part Number: SMA6T24CAY; Applications: Automotive; ComponentLink1Description: Datasheet; ComponentLink1URL: http://www.st.com/content/ccc/resource/technical/document/datasheet/93/f7/c5/38/17/3c/42/37/CD00283518.pdf/files/CD00283518.pdf/_jcr_content/translations/en.CD00283518.pdf; ComponentLink2Description: DigiKey Link; ComponentLink2URL: http://digikey.com/product-detail/en/stmicroelectronics/SMA6T24CAY/497-10942-1-ND/2522565; LastUpdated: 9/2/2020 1:27:55 AM; Lifecycle Status: Active; Minimum Order: 1; Mounting Type: Surface Mount; Operating Temperature: -40°C ~ 150°C (TJ); Package / Case: DO-214AC, SMA; Packaging: TapeAndReel; PartId: 7801; Part Status: Active; Price: 0.38; Series: Automotive, AEC-Q101, SMA6TY, TRANSIL™; Supplier 1: DigiKey; Supplier Part Number 1: 497-10942-1-ND; Supplier Device Package: SMA (DO-214AC); Voltage - Clamping (Max) @ Ipp: 42.8V; Voltage - Reverse Standoff (Typ): 20.5V
footprint DO214AC SMA
pins: 1, 2

## SMA6T28AY
designator D?
TVS DIODE 24V 44.3V SMA; Manufacturer: STMicroelectronics; Current - Peak Pulse (10/1000µs): 80A (8/20µs); Power Line Protection: No; Power - Peak Pulse: 600W; Type: Zener; Unidirectional Channels: 1; Voltage - Breakdown (Min): 26.7V; Part Number: SMA6T28AY; Applications: Automotive; ComponentLink1Description: Datasheet; ComponentLink1URL: http://www.st.com/content/ccc/resource/technical/document/datasheet/93/f7/c5/38/17/3c/42/37/CD00283518.pdf/files/CD00283518.pdf/_jcr_content/translations/en.CD00283518.pdf; ComponentLink2Description: DigiKey Link; ComponentLink2URL: http://digikey.com/product-detail/en/stmicroelectronics/SMA6T28AY/497-10943-1-ND/2522566; LastUpdated: 9/2/2020 1:20:15 AM; Lifecycle Status: Active; Minimum Order: 1; Mounting Type: Surface Mount; Operating Temperature: -40°C ~ 150°C (TJ); Package / Case: DO-214AC, SMA; Packaging: TapeAndReel; PartId: 5884; Part Status: Active; Price: 0.35; Series: Automotive, AEC-Q101, SMA6TY, TRANSIL™; Supplier 1: DigiKey; Supplier Part Number 1: 497-10943-1-ND; Supplier Device Package: SMA (DO-214AC); Voltage - Clamping (Max) @ Ipp: 44.3V; Voltage - Reverse Standoff (Typ): 24V
footprint DO214AC SMA
pins: 1, 2

## SMA6T28CAY
designator D?
TVS DIODE 24V 44.3V SMA; Manufacturer: STMicroelectronics; Bidirectional Channels: 1; Current - Peak Pulse (10/1000µs): 80A (8/20µs); Power Line Protection: No; Power - Peak Pulse: 600W; Type: Zener; Voltage - Breakdown (Min): 26.7V; Part Number: SMA6T28CAY; Applications: Automotive; ComponentLink1Description: Datasheet; ComponentLink1URL: http://www.st.com/content/ccc/resource/technical/document/datasheet/93/f7/c5/38/17/3c/42/37/CD00283518.pdf/files/CD00283518.pdf/_jcr_content/translations/en.CD00283518.pdf; ComponentLink2Description: DigiKey Link; ComponentLink2URL: http://digikey.com/product-detail/en/stmicroelectronics/SMA6T28CAY/497-10944-1-ND/2522567; LastUpdated: 9/2/2020 1:27:55 AM; Lifecycle Status: Active; Minimum Order: 1; Mounting Type: Surface Mount; Operating Temperature: -40°C ~ 150°C (TJ); Package / Case: DO-214AC, SMA; Packaging: TapeAndReel; PartId: 7827; Part Status: Active; Price: 0.38; Series: Automotive, AEC-Q101, SMA6TY, TRANSIL™; Supplier 1: DigiKey; Supplier Part Number 1: 497-10944-1-ND; Supplier Device Package: SMA (DO-214AC); Voltage - Clamping (Max) @ Ipp: 44.3V; Voltage - Reverse Standoff (Typ): 24V
footprint DO214AC SMA
pins: 1, 2

## SMA6T30CAY
designator D?
TVS DIODE 25.6V 53.5V SMA; Manufacturer: STMicroelectronics; Bidirectional Channels: 1; Current - Peak Pulse (10/1000µs): 75A (8/20µs); Power Line Protection: No; Power - Peak Pulse: 600W; Type: Zener; Voltage - Breakdown (Min): 28.5V; Part Number: SMA6T30CAY; Applications: Automotive; ComponentLink1Description: Datasheet; ComponentLink1URL: http://www.st.com/content/ccc/resource/technical/document/datasheet/93/f7/c5/38/17/3c/42/37/CD00283518.pdf/files/CD00283518.pdf/_jcr_content/translations/en.CD00283518.pdf; ComponentLink2Description: DigiKey Link; ComponentLink2URL: http://digikey.com/product-detail/en/stmicroelectronics/SMA6T30CAY/497-10946-1-ND/2522569; LastUpdated: 9/2/2020 1:27:51 AM; Lifecycle Status: Active; Minimum Order: 1; Mounting Type: Surface Mount; Operating Temperature: -40°C ~ 150°C (TJ); Package / Case: DO-214AC, SMA; Packaging: TapeAndReel; PartId: 7394; Part Status: Active; Price: 0.38; Series: Automotive, AEC-Q101, SMA6TY, TRANSIL™; Supplier 1: DigiKey; Supplier Part Number 1: 497-10946-1-ND; Supplier Device Package: SMA (DO-214AC); Voltage - Clamping (Max) @ Ipp: 53.5V; Voltage - Reverse Standoff (Typ): 25.6V
footprint DO214AC SMA
pins: 1, 2

## SMA6T33AY
designator D?
TVS DIODE 28.2V 59V SMA; Manufacturer: STMicroelectronics; Current - Peak Pulse (10/1000µs): 68A (8/20µs); Power Line Protection: No; Power - Peak Pulse: 600W; Type: Zener; Unidirectional Channels: 1; Voltage - Breakdown (Min): 31.4V; Part Number: SMA6T33AY; Applications: Automotive; ComponentLink1Description: Datasheet; ComponentLink1URL: http://www.st.com/content/ccc/resource/technical/document/datasheet/93/f7/c5/38/17/3c/42/37/CD00283518.pdf/files/CD00283518.pdf/_jcr_content/translations/en.CD00283518.pdf; ComponentLink2Description: DigiKey Link; ComponentLink2URL: http://digikey.com/product-detail/en/stmicroelectronics/SMA6T33AY/497-10947-1-ND/2522570; LastUpdated: 9/2/2020 1:20:15 AM; Lifecycle Status: Active; Minimum Order: 1; Mounting Type: Surface Mount; Operating Temperature: -40°C ~ 150°C (TJ); Package / Case: DO-214AC, SMA; Packaging: TapeAndReel; PartId: 5886; Part Status: Active; Price: 0.35; Series: Automotive, AEC-Q101, SMA6TY, TRANSIL™; Supplier 1: DigiKey; Supplier Part Number 1: 497-10947-1-ND; Supplier Device Package: SMA (DO-214AC); Voltage - Clamping (Max) @ Ipp: 59V; Voltage - Reverse Standoff (Typ): 28.2V
footprint DO214AC SMA
pins: 1, 2

## SMA6T33CAY
designator D?
TVS DIODE 28.2V 59V SMA; Manufacturer: STMicroelectronics; Bidirectional Channels: 1; Current - Peak Pulse (10/1000µs): 68A (8/20µs); Power Line Protection: No; Power - Peak Pulse: 600W; Type: Zener; Voltage - Breakdown (Min): 31.4V; Part Number: SMA6T33CAY; Applications: Automotive; ComponentLink1Description: Datasheet; ComponentLink1URL: http://www.st.com/content/ccc/resource/technical/document/datasheet/93/f7/c5/38/17/3c/42/37/CD00283518.pdf/files/CD00283518.pdf/_jcr_content/translations/en.CD00283518.pdf; ComponentLink2Description: DigiKey Link; ComponentLink2URL: http://digikey.com/product-detail/en/stmicroelectronics/SMA6T33CAY/497-10948-1-ND/2522571; LastUpdated: 9/2/2020 1:27:51 AM; Lifecycle Status: Active; Minimum Order: 1; Mounting Type: Surface Mount; Operating Temperature: -40°C ~ 150°C (TJ); Package / Case: DO-214AC, SMA; Packaging: TapeAndReel; PartId: 7369; Part Status: Active; Price: 0.38; Series: Automotive, AEC-Q101, SMA6TY, TRANSIL™; Supplier 1: DigiKey; Supplier Part Number 1: 497-10948-1-ND; Supplier Device Package: SMA (DO-214AC); Voltage - Clamping (Max) @ Ipp: 59V; Voltage - Reverse Standoff (Typ): 28.2V
footprint DO214AC SMA
pins: 1, 2

## SMA6T39AY
designator D?
TVS DIODE 33.3V 69.7V SMA; Manufacturer: STMicroelectronics; Current - Peak Pulse (10/1000µs): 57A (8/20µs); Power Line Protection: No; Power - Peak Pulse: 600W; Type: Zener; Unidirectional Channels: 1; Voltage - Breakdown (Min): 37.1V; Part Number: SMA6T39AY; Applications: Automotive; ComponentLink1Description: Datasheet; ComponentLink1URL: http://www.st.com/content/ccc/resource/technical/document/datasheet/93/f7/c5/38/17/3c/42/37/CD00283518.pdf/files/CD00283518.pdf/_jcr_content/translations/en.CD00283518.pdf; ComponentLink2Description: DigiKey Link; ComponentLink2URL: http://digikey.com/product-detail/en/stmicroelectronics/SMA6T39AY/497-10949-1-ND/2522572; LastUpdated: 9/2/2020 1:20:15 AM; Lifecycle Status: Active; Minimum Order: 1; Mounting Type: Surface Mount; Operating Temperature: -40°C ~ 150°C (TJ); Package / Case: DO-214AC, SMA; Packaging: TapeAndReel; PartId: 5885; Part Status: Active; Price: 0.35; Series: Automotive, AEC-Q101, SMA6TY, TRANSIL™; Supplier 1: DigiKey; Supplier Part Number 1: 497-10949-1-ND; Supplier Device Package: SMA (DO-214AC); Voltage - Clamping (Max) @ Ipp: 69.7V; Voltage - Reverse Standoff (Typ): 33.3V
footprint DO214AC SMA
pins: 1, 2

## SMA6T39CAY
designator D?
TVS DIODE 33.3V 69.7V SMA; Manufacturer: STMicroelectronics; Bidirectional Channels: 1; Current - Peak Pulse (10/1000µs): 57A (8/20µs); Power Line Protection: No; Power - Peak Pulse: 600W; Type: Zener; Voltage - Breakdown (Min): 37.1V; Part Number: SMA6T39CAY; Applications: Automotive; ComponentLink1Description: Datasheet; ComponentLink1URL: http://www.st.com/content/ccc/resource/technical/document/datasheet/93/f7/c5/38/17/3c/42/37/CD00283518.pdf/files/CD00283518.pdf/jcr:content/translations/en.CD00283518.pdf; ComponentLink2Description: DigiKey Link; ComponentLink2URL: http://digikey.com/product-detail/en/stmicroelectronics/SMA6T39CAY/497-10950-1-ND/2522573; LastUpdated: 9/2/2020 1:27:55 AM; Lifecycle Status: Active; Minimum Order: 1; Mounting Type: Surface Mount; Operating Temperature: -40°C ~ 150°C (TJ); Package / Case: DO-214AC, SMA; Packaging: TapeAndReel; PartId: 7800; Part Status: Active; Price: 0.38; Series: Automotive, AEC-Q101, SMA6TY, TRANSIL™; Supplier 1: DigiKey; Supplier Part Number 1: 497-10950-1-ND; Supplier Device Package: SMA (DO-214AC); Voltage - Clamping (Max) @ Ipp: 69.7V; Voltage - Reverse Standoff (Typ): 33.3V
footprint DO214AC SMA
pins: 1, 2

## SMA6T47AY
designator D?
TVS DIODE 40V 73.6V SMA; Manufacturer: STMicroelectronics; Current - Peak Pulse (10/1000µs): 48A (8/20µs); Power Line Protection: No; Power - Peak Pulse: 600W; Type: Zener; Unidirectional Channels: 1; Voltage - Breakdown (Min): 44.4V; Part Number: SMA6T47AY; Applications: Automotive; ComponentLink1Description: Datasheet; ComponentLink1URL: http://www.st.com/content/ccc/resource/technical/document/datasheet/93/f7/c5/38/17/3c/42/37/CD00283518.pdf/files/CD00283518.pdf/_jcr_content/translations/en.CD00283518.pdf; ComponentLink2Description: DigiKey Link; ComponentLink2URL: http://digikey.com/product-detail/en/stmicroelectronics/SMA6T47AY/497-11829-1-ND/2756625; LastUpdated: 9/2/2020 1:20:12 AM; Lifecycle Status: Active; Minimum Order: 1; Mounting Type: Surface Mount; Operating Temperature: -40°C ~ 150°C (TJ); Package / Case: DO-214AC, SMA; Packaging: TapeAndReel; PartId: 5555; Part Status: Active; Price: 0.21; Series: Automotive, AEC-Q101, SMA6TY, TRANSIL™; Supplier 1: DigiKey; Supplier Part Number 1: 497-11829-1-ND; Supplier Device Package: SMA (DO-214AC); Voltage - Clamping (Max) @ Ipp: 73.6V; Voltage - Reverse Standoff (Typ): 40V
footprint DO214AC SMA
pins: 1, 2

## SMA6T47CAY
designator D?
TVS DIODE 40V 73.6V SMA; Manufacturer: STMicroelectronics; Bidirectional Channels: 1; Current - Peak Pulse (10/1000µs): 48A (8/20µs); Power Line Protection: No; Power - Peak Pulse: 600W; Type: Zener; Voltage - Breakdown (Min): 44.4V; Part Number: SMA6T47CAY; Applications: Automotive; ComponentLink1Description: Datasheet; ComponentLink1URL: http://www.st.com/content/ccc/resource/technical/document/datasheet/93/f7/c5/38/17/3c/42/37/CD00283518.pdf/files/CD00283518.pdf/_jcr_content/translations/en.CD00283518.pdf; ComponentLink2Description: DigiKey Link; ComponentLink2URL: http://digikey.com/product-detail/en/stmicroelectronics/SMA6T47CAY/497-11830-1-ND/2756624; LastUpdated: 9/2/2020 1:27:50 AM; Lifecycle Status: Active; Minimum Order: 1; Mounting Type: Surface Mount; Operating Temperature: -40°C ~ 150°C (TJ); Package / Case: DO-214AC, SMA; Packaging: TapeAndReel; PartId: 7310; Part Status: Active; Price: 0.23; Series: Automotive, AEC-Q101, SMA6TY, TRANSIL™; Supplier 1: DigiKey; Supplier Part Number 1: 497-11830-1-ND; Supplier Device Package: SMA (DO-214AC); Voltage - Clamping (Max) @ Ipp: 73.6V; Voltage - Reverse Standoff (Typ): 40V
footprint DO214AC SMA
pins: 1, 2

## SMA6T56AY
designator D?
TVS DIODE 48V 100V SMA; Manufacturer: STMicroelectronics; Current - Peak Pulse (10/1000µs): 40A (8/20µs); Power Line Protection: No; Power - Peak Pulse: 600W; Type: Zener; Unidirectional Channels: 1; Voltage - Breakdown (Min): 53.2V; Voltage - Reverse Standoff (Typ): 47.6V; Part Number: SMA6T56AY; Applications: Automotive; ComponentLink1Description: Datasheet; ComponentLink1URL: http://www.st.com/content/ccc/resource/technical/document/datasheet/93/f7/c5/38/17/3c/42/37/CD00283518.pdf/files/CD00283518.pdf/_jcr_content/translations/en.CD00283518.pdf; ComponentLink2Description: DigiKey Link; ComponentLink2URL: http://digikey.com/product-detail/en/stmicroelectronics/SMA6T56AY/497-10951-1-ND/2522574; LastUpdated: 9/2/2020 1:20:18 AM; Lifecycle Status: Active; Minimum Order: 1; Mounting Type: Surface Mount; Operating Temperature: -40°C ~ 150°C (TJ); Package / Case: DO-214AC, SMA; Packaging: TapeAndReel; PartId: 6167; Part Status: Active; Price: 0.35; Series: Automotive, AEC-Q101, SMA6TY, TRANSIL™; Supplier 1: DigiKey; Supplier Part Number 1: 497-10951-1-ND; Supplier Device Package: SMA (DO-214AC); Voltage - Clamping (Max) @ Ipp: 100V
footprint DO214AC SMA
pins: 1, 2

## SMA6T56CAY
designator D?
TVS DIODE 48V 100V SMA; Manufacturer: STMicroelectronics; Bidirectional Channels: 1; Current - Peak Pulse (10/1000µs): 40A (8/20µs); Power Line Protection: No; Power - Peak Pulse: 600W; Type: Zener; Voltage - Breakdown (Min): 53.3V; Part Number: SMA6T56CAY; Applications: Automotive; ComponentLink1Description: Datasheet; ComponentLink1URL: http://www.st.com/content/ccc/resource/technical/document/datasheet/93/f7/c5/38/17/3c/42/37/CD00283518.pdf/files/CD00283518.pdf/_jcr_content/translations/en.CD00283518.pdf; ComponentLink2Description: DigiKey Link; ComponentLink2URL: http://digikey.com/product-detail/en/stmicroelectronics/SMA6T56CAY/497-10952-1-ND/2522575; LastUpdated: 9/2/2020 1:27:51 AM; Lifecycle Status: Active; Minimum Order: 1; Mounting Type: Surface Mount; Operating Temperature: -40°C ~ 150°C (TJ); Package / Case: DO-214AC, SMA; Packaging: TapeAndReel; PartId: 7395; Part Status: Active; Price: 0.38; Series: Automotive, AEC-Q101, SMA6TY, TRANSIL™; Supplier 1: DigiKey; Supplier Part Number 1: 497-10952-1-ND; Supplier Device Package: SMA (DO-214AC); Voltage - Clamping (Max) @ Ipp: 100V; Voltage - Reverse Standoff (Typ): 48V
footprint DO214AC SMA
pins: 1, 2

## SMA6T68CAY
designator D?
TVS DIODE 58.1V 121V SMA; Manufacturer: STMicroelectronics; Bidirectional Channels: 1; Current - Peak Pulse (10/1000µs): 33A (8/20µs); Power Line Protection: No; Power - Peak Pulse: 600W; Type: Zener; Voltage - Breakdown (Min): 64.6V; Part Number: SMA6T68CAY; Applications: Automotive; ComponentLink1Description: Datasheet; ComponentLink1URL: http://www.st.com/content/ccc/resource/technical/document/datasheet/93/f7/c5/38/17/3c/42/37/CD00283518.pdf/files/CD00283518.pdf/_jcr_content/translations/en.CD00283518.pdf; ComponentLink2Description: DigiKey Link; ComponentLink2URL: http://digikey.com/product-detail/en/stmicroelectronics/SMA6T68CAY/497-11832-1-ND/2756607; LastUpdated: 9/2/2020 1:27:55 AM; Lifecycle Status: Active; Minimum Order: 1; Mounting Type: Surface Mount; Operating Temperature: -40°C ~ 150°C (TJ); Package / Case: DO-214AC, SMA; Packaging: TapeAndReel; PartId: 7860; Part Status: Active; Price: 0.23; Series: Automotive, AEC-Q101, SMA6TY, TRANSIL™; Supplier 1: DigiKey; Supplier Part Number 1: 497-11832-1-ND; Supplier Device Package: SMA (DO-214AC); Voltage - Clamping (Max) @ Ipp: 121V; Voltage - Reverse Standoff (Typ): 58.1V
footprint DO214AC SMA
pins: 1, 2

## SMA6T82AY
designator D?
TVS DIODE 70V 120V SMA; Manufacturer: STMicroelectronics; Current - Peak Pulse (10/1000µs): 27A (8/20µs); Power Line Protection: No; Power - Peak Pulse: 600W; Type: Zener; Unidirectional Channels: 1; Voltage - Breakdown (Min): 77.8V; Part Number: SMA6T82AY; Applications: Automotive; ComponentLink1Description: Datasheet; ComponentLink1URL: http://www.st.com/content/ccc/resource/technical/document/datasheet/93/f7/c5/38/17/3c/42/37/CD00283518.pdf/files/CD00283518.pdf/_jcr_content/translations/en.CD00283518.pdf; ComponentLink2Description: DigiKey Link; ComponentLink2URL: http://digikey.com/product-detail/en/stmicroelectronics/SMA6T82AY/497-11837-1-ND/2756602; LastUpdated: 9/2/2020 1:20:14 AM; Lifecycle Status: Active; Minimum Order: 1; Mounting Type: Surface Mount; Operating Temperature: -40°C ~ 150°C (TJ); Package / Case: DO-214AC, SMA; Packaging: TapeAndReel; PartId: 5697; Part Status: Active; Price: 0.21; Series: Automotive, AEC-Q101, SMA6TY, TRANSIL™; Supplier 1: DigiKey; Supplier Part Number 1: 497-11837-1-ND; Supplier Device Package: SMA (DO-214AC); Voltage - Clamping (Max) @ Ipp: 120V; Voltage - Reverse Standoff (Typ): 70V
footprint DO214AC SMA
pins: 1, 2

## SMA6T82CAY
designator D?
TVS DIODE 70V 120V SMA; Manufacturer: STMicroelectronics; Bidirectional Channels: 1; Current - Peak Pulse (10/1000µs): 27A (8/20µs); Power Line Protection: No; Power - Peak Pulse: 600W; Type: Zener; Voltage - Breakdown (Min): 77.8V; Part Number: SMA6T82CAY; Applications: Automotive; ComponentLink1Description: Datasheet; ComponentLink1URL: http://www.st.com/content/ccc/resource/technical/document/datasheet/93/f7/c5/38/17/3c/42/37/CD00283518.pdf/files/CD00283518.pdf/_jcr_content/translations/en.CD00283518.pdf; ComponentLink2Description: DigiKey Link; ComponentLink2URL: http://digikey.com/product-detail/en/stmicroelectronics/SMA6T82CAY/497-11838-1-ND/2756603; LastUpdated: 9/2/2020 1:27:50 AM; Lifecycle Status: Active; Minimum Order: 1; Mounting Type: Surface Mount; Operating Temperature: -40°C ~ 150°C (TJ); Package / Case: DO-214AC, SMA; Packaging: TapeAndReel; PartId: 7309; Part Status: Active; Price: 0.23; Series: Automotive, AEC-Q101, SMA6TY, TRANSIL™; Supplier 1: DigiKey; Supplier Part Number 1: 497-11838-1-ND; Supplier Device Package: SMA (DO-214AC); Voltage - Clamping (Max) @ Ipp: 120V; Voltage - Reverse Standoff (Typ): 70V
footprint DO214AC SMA
pins: 1, 2

## SMAJ5.0
designator D?
TVS DIODE 5V 9.66V DO214AC; Manufacturer: Littelfuse Inc.; Current - Peak Pulse (10/1000µs): 43.5A; Power Line Protection: No; Power - Peak Pulse: 400W; Type: Zener; Unidirectional Channels: 1; Voltage - Breakdown (Min): 6.03V; Part Number: SMAJ5.0; Applications: General Purpose; ComponentLink1Description: Datasheet; ComponentLink1URL: https://www.littelfuse.com/~/media/electronics/datasheets/tvs_diodes/littelfuse_tvs_diode_smaj_datasheet.pdf.pdf; ComponentLink2Description: DigiKey Link; ComponentLink2URL: http://digikey.com/product-detail/en/littelfuse-inc/SMAJ5.0/F5678CT-ND/3307068; LastUpdated: 9/2/2020 1:20:18 AM; Lifecycle Status: Active; Minimum Order: 1; Mounting Type: Surface Mount; Operating Temperature: -65°C ~ 150°C (TJ); Package / Case: DO-214AC, SMA; Packaging: TapeAndReel; PartId: 6212; Part Status: Active; Price: 0.13; Series: SMAJ; Supplier 1: DigiKey; Supplier Part Number 1: F5678CT-ND; Supplier Device Package: DO-214AC (SMA); Voltage - Clamping (Max) @ Ipp: 9.66V; Voltage - Reverse Standoff (Typ): 5V
footprint DO214AC SMA
pins: 1, 2

## SMAJ5.0A
designator D?
TVS DIODE 5V 9.2V DO214AC; Manufacturer: Littelfuse Inc.; Current - Peak Pulse (10/1000µs): 43.5A; Power Line Protection: No; Power - Peak Pulse: 400W; Type: Zener; Unidirectional Channels: 1; Voltage - Breakdown (Min): 6.4V; Part Number: SMAJ5.0A; Applications: General Purpose; ComponentLink1Description: Datasheet; ComponentLink1URL: https://www.littelfuse.com/~/media/electronics/datasheets/tvs_diodes/littelfuse_tvs_diode_smaj_datasheet.pdf.pdf; ComponentLink2Description: DigiKey Link; ComponentLink2URL: http://digikey.com/product-detail/en/littelfuse-inc/SMAJ5.0A/SMAJ5.0ALFCT-ND/762462; LastUpdated: 9/2/2020 1:20:14 AM; Lifecycle Status: Active; Minimum Order: 1; Mounting Type: Surface Mount; Operating Temperature: -65°C ~ 150°C (TJ); Package / Case: DO-214AC, SMA; Packaging: TapeAndReel; PartId: 5719; Part Status: Active; Price: 0.08; Series: SMAJ; Supplier 1: DigiKey; Supplier Part Number 1: SMAJ5.0ALFCT-ND; Supplier Device Package: DO-214AC (SMA); Voltage - Clamping (Max) @ Ipp: 9.2V; Voltage - Reverse Standoff (Typ): 5V
footprint DO214AC SMA
pins: 1, 2

## SMAJ5.0A-13-F
designator D?
TVS DIODE 5V 9.2V SMA; Manufacturer: Diodes Incorporated; Current - Peak Pulse (10/1000µs): 43.5A; Power Line Protection: No; Power - Peak Pulse: 400W; Type: Zener; Unidirectional Channels: 1; Voltage - Breakdown (Min): 6.4V; Part Number: SMAJ5.0A-13-F; Applications: General Purpose; ComponentLink1Description: Datasheet; ComponentLink1URL: https://www.diodes.com/assets/Datasheets/ds19005.pdf; ComponentLink2Description: DigiKey Link; ComponentLink2URL: http://digikey.com/product-detail/en/diodes-incorporated/SMAJ5.0A-13-F/SMAJ5.0A-FDICT-ND/816522; LastUpdated: 9/2/2020 1:20:15 AM; Lifecycle Status: Active; Minimum Order: 1; Mounting Type: Surface Mount; Operating Temperature: -55°C ~ 150°C (TJ); Package / Case: DO-214AC, SMA; Packaging: TapeAndReel; PartId: 5773; Part Status: Active; Price: 0.08; Series: -; Supplier 1: DigiKey; Supplier Part Number 1: SMAJ5.0A-FDICT-ND; Supplier Device Package: SMA; Voltage - Clamping (Max) @ Ipp: 9.2V; Voltage - Reverse Standoff (Typ): 5V
footprint DO214AC SMA
pins: 1, 2